# EAGLE library part SP721 (library PP_Passives)
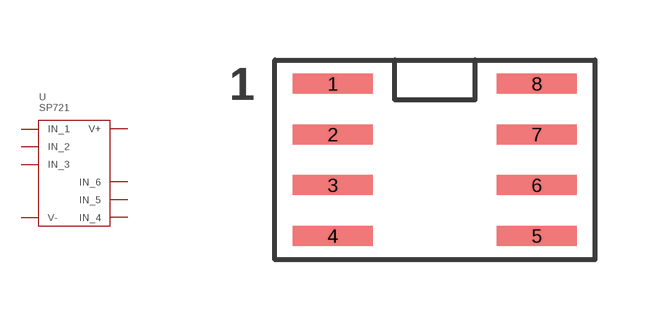
[diagram p3: symbol with the pads of SP721_SOIC-8; footprint SP721_SOIC-8]

Designator prefix U

## SP721ABG  [SP721_SOIC-8]
1  IN_1
2  IN_2
3  IN_3
4  V-
5  IN_4
6  IN_5
7  IN_6
8  V+

## Footprint SP721_SOIC-8 (pad centres in mm)
smd 2 x 0.5: 1 -2.55,1.905; 2 -2.55,0.635; 3 -2.55,-0.635; 4 -2.55,-1.905; 5 2.55,-1.905; 6 2.55,-0.635; 7 2.55,0.635; 8 2.55,1.905